# EAGLE library part CY8C29666-48PIN (library cypress_psoc_V1_0)
Cypress PSoC® 1 - Programmable System on Chip, M8C Based Source Data: http://www.cypress.com/?mpn=CY8C29666-24PVXI LBR Source: http://www.westmarkelectronics.com Thomas W. Moxon Director of Engineering www.westmarkelectronics.com
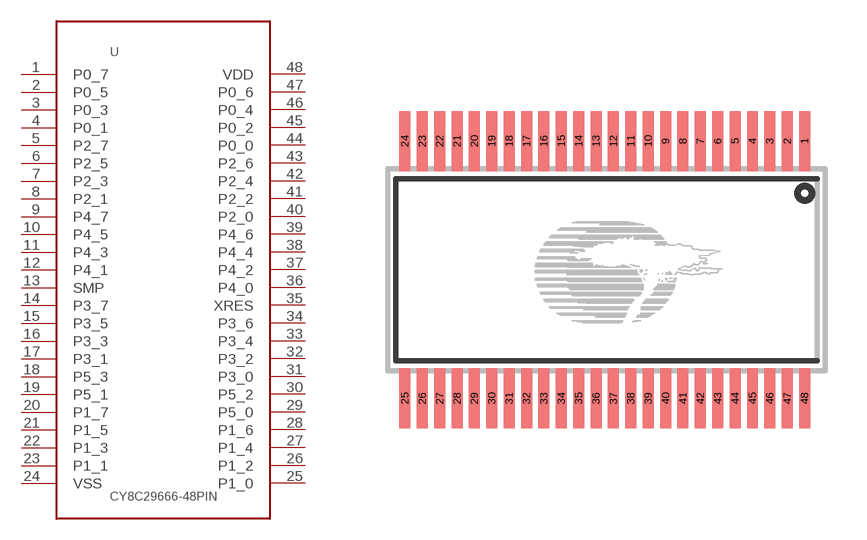
[diagram p8: symbol with the pads of SSOP48; footprint SSOP48]

Designator prefix U

## CY8C29666-48PIN (MPN: CY8C29666-24PVXI)  [SSOP48]
1  P0_7
2  P0_5
3  P0_3
4  P0_1
5  P2_7
6  P2_5
7  P2_3
8  P2_1
9  P4_7
10  P4_5
11  P4_3
12  P4_1
13  SMP
14  P3_7
15  P3_5
16  P3_3
17  P3_1
18  P5_3
19  P5_1
20  P1_7
21  P1_5
22  P1_3
23  P1_1
24  VSS  pwr
25  P1_0
26  P1_2
27  P1_4
28  P1_6
29  P5_0
30  P5_2
31  P3_0
32  P3_2
33  P3_4
34  P3_6
35  XRES
36  P4_0
37  P4_2
38  P4_4
39  P4_6
40  P2_0
41  P2_2
42  P2_4
43  P2_6
44  P0_0
45  P0_2
46  P0_4
47  P0_6
48  VDD  pwr

## Footprint SSOP48 (pad centres in mm)
SSOP-48 Shrink Small Outline Package with 48 pins 48LD SSOP .240 mil Data Source: http://www.cypress.com/?docID=20442 Shrink Small Outline Package with 48 pins 48LD SSOP .210 mil Data Source: http://www.cypress.com/?docID=20442 LBR Source: http://www.westmarkelectronics.com LBR Source: http://www.westmarkelectronics.com
smd 0.4 x 2.2: 1 6.859,4.573; 2 6.223,4.573; 3 5.588,4.573; 4 4.954,4.573; 5 4.319,4.573; 6 3.683,4.573; 7 3.049,4.573; 8 2.413,4.573; 9 1.778,4.573; 10 1.143,4.573; 11 0.508,4.573; 12 -0.127,4.573; 13 -0.762,4.573; 14 -1.397,4.573; 15 -2.033,4.573; 16 -2.667,4.573; 17 -3.303,4.573; 18 -3.938,4.573; 19 -4.572,4.573; 20 -5.207,4.573; 21 -5.843,4.573; 22 -6.478,4.573; 23 -7.112,4.573; 24 -7.747,4.573; 25 -7.747,-4.827; 26 -7.112,-4.827; 27 -6.478,-4.827; 28 -5.843,-4.827; 29 -5.207,-4.827; 30 -4.572,-4.827; 31 -3.938,-4.827; 32 -3.303,-4.827; 33 -2.667,-4.827; 34 -2.033,-4.827; 35 -1.397,-4.827; 36 -0.762,-4.827; 37 -0.127,-4.827; 38 0.508,-4.827; 39 1.143,-4.827; 40 1.778,-4.827; 41 2.413,-4.827; 42 3.049,-4.827; 43 3.683,-4.827; 44 4.319,-4.827; 45 4.954,-4.827; 46 5.588,-4.827; 47 6.223,-4.827; 48 6.859,-4.827